# EAGLE library part 662018236022 (library Wire_to_Board_Connectors_rev15d)
WR-MPC3 3.00mm Male Dual Row SMT Angled Header with Plastic Pegs, 18 Pins=>Code : Con_WTB_MPC3_2_PCB_SMT_662018236022 <http://katalog.we-online.de/media/thumbs2/eican/thb_Con_WTB_MPC3_2_PCB_SMT_6620xx236022_pf2.jpg> Details see: http://katalog.we-online.de/en/em/662_0xx_236_022 Created 2014-06-06, Karrer Zheng 2014 (C) Würth Elektronik
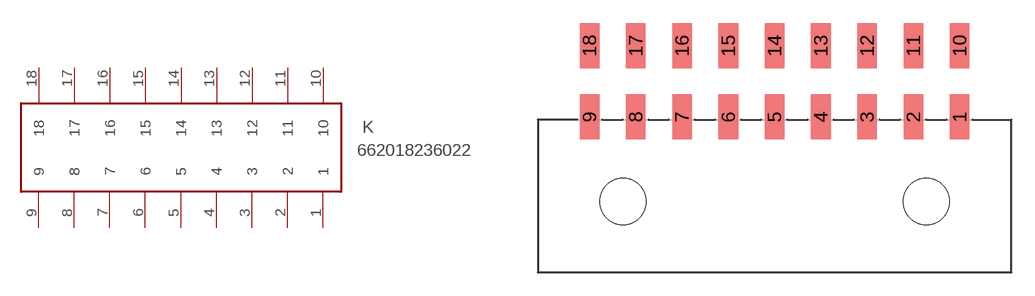
[diagram p387: symbol with the pads of 662018236022; footprint 662018236022]

Designator prefix K

## 662018236022  [662018236022]
1  1  pas
2  2  pas
3  3  pas
4  4  pas
5  5  pas
6  6  pas
7  7  pas
8  8  pas
9  9  pas
10  10  pas
11  11  pas
12  12  pas
13  13  pas
14  14  pas
15  15  pas
16  16  pas
17  17  pas
18  18  pas

## Footprint 662018236022 (pad centres in mm)
WR-MPC3 3.00mm Male Dual Row SMT Angled Header with Plastic Pegs, 18 Pins
smd 1.27 x 2.92: 1 12,5.48; 2 9,5.48; 3 6,5.48; 4 3,5.48; 5 0,5.48; 6 -3,5.48; 7 -6,5.48; 8 -9,5.48; 9 -12,5.48; 10 12,10.1; 11 9,10.1; 12 6,10.1; 13 3,10.1; 14 0,10.1; 15 -3,10.1; 16 -6,10.1; 17 -9,10.1; 18 -12,10.1
hole 3 at 9.84,0
hole 3 at -9.84,0